# Altium integrated library PTS810.IntLib: 1 symbol
Pins are listed as number, name and electrical type; pins without a type are passive.

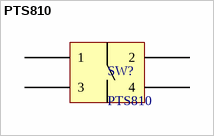
[diagram p0: symbol PTS810]

## PTS810
designator SW?
footprint PTS810
pins: 1, 2, 3, 4